# EAGLE library part ESPSOLPIN (library SpatMuy2022)
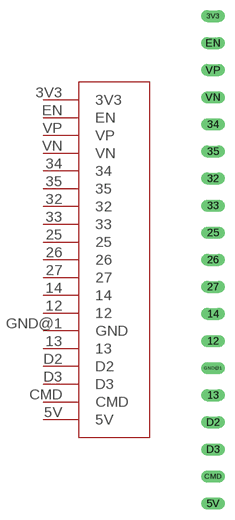
[diagram p7: symbol with the pads of ESPSOLPIN; footprint ESPSOLPIN]

Designator prefix -

## ESPSOLPIN  [ESPSOLPIN]
3V3  3V3
5V  5V
12  12
13  13
14  14
25  25
26  26
27  27
32  32
33  33
34  34
35  35
CMD  CMD
D2  D2
D3  D3
EN  EN
GND@1  GND
VN  VN
VP  VP

## Footprint ESPSOLPIN (pad centres in mm)
drill 0.6 long: 3V3 0,38.1; 5V 0,-7.62; 12 0,7.62; 13 0,2.54; 14 0,10.16; 25 0,17.78; 26 0,15.24; 27 0,12.7; 32 0,22.86; 33 0,20.32; 34 0,27.94; 35 0,25.4; CMD 0,-5.08; D2 0,0; D3 0,-2.54; EN 0,35.56; GND@1 0,5.08; VN 0,30.48; VP 0,33.02